# Altium footprint library Conn.Molex.PcbLib: 79 footprints (part 2 of 5)
Each footprint in its own frame and in the unit in brackets; x right, y up, seen from the top. Pads: shape width x height; smd on the part's side, far side on the other; paste and mask are expansions set on the pad; w line width, h text height; cw(c..) or ccw(c..) is an arc to the next point about the centre after c.
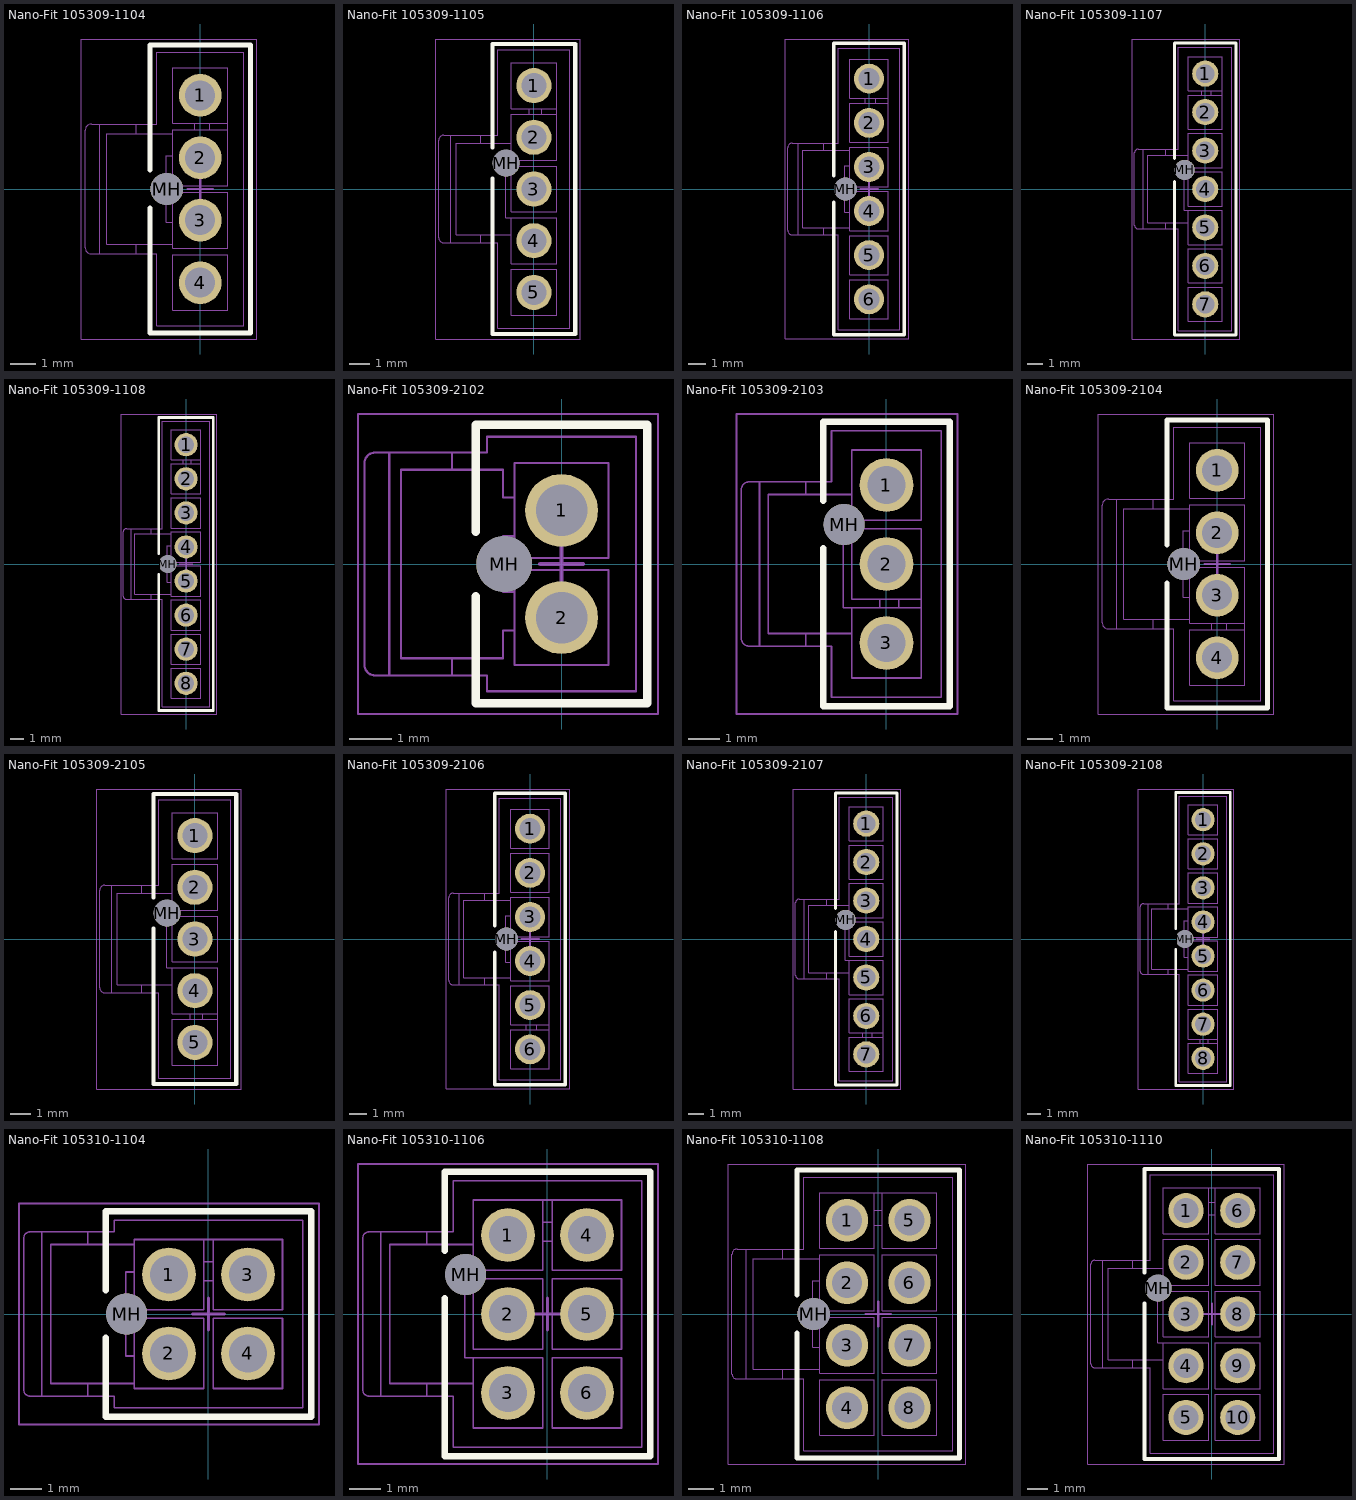
[diagram p1: the footprints below, top view; thin cyan lines are the x and y axes]

## Nano-Fit 105309-1104 [mm] "Molex Nano-Fit Header, 4-Pin, 2.5mm Pitch"
height 10.51
pads (5):
  round 1.7 hole 1.2: 1(0,3.75) 2(0,1.25) 3(0,-1.25) 4(0,-3.75)
  round 1.3 hole 1.3 unplated: MH(-1.34,0)
Top Overlay:
  lines w0.2: -2,-0.75 -2,-5.75 2,-5.75 2,5.75 -2,5.75 -2,0.75
Bottom Overlay:
  region: 0,4.884 -0.5,5.75 0.5,5.75
Mechanical 1:
  lines w0.05: -4.02,-2.6 -4.02,2.6 ; -2.56,-2.6 -2.56,-2.2 ; -2.56,2.2 -2.56,2.6 ; -1.095,-2.2 -3.75,-2.2 -3.75,2.2 -1.095,2.2 ; -1.095,-1.33 -1.37,-1.33 -1.37,1.33 -1.095,1.33 ; -0.215,2.36 -0.215,2.64 ; 0.385,2.36 0.385,2.64 ; 1.095,2.36 -1.095,2.36 -1.095,0.14 1.095,0.14 1.095,4.86 -1.095,4.86 -1.095,2.64 1.095,2.64 ; -0.318,-4.068 0.318,-4.068 ; -0.318,-4.068 -0.318,-3.433 ; -0.318,-4.068 -0.168,-3.918 ; -0.318,-3.433 0.318,-3.433 ; -0.318,-3.433 -0.168,-3.582 ; -0.318,-1.568 -0.318,-0.933 ; -0.318,-1.568 -0.168,-1.418 ; -0.318,-1.568 0.318,-1.568 ; -0.318,-0.933 0.318,-0.933 ; -0.318,-0.933 -0.168,-1.082 ; -0.318,0.933 -0.318,1.568 ; -0.318,0.933 -0.168,1.082 ; -0.318,0.933 0.318,0.933 ; -0.318,1.568 0.318,1.568 ; -0.318,1.568 -0.168,1.418 ; -0.318,3.433 -0.318,4.068 ; -0.318,3.433 -0.168,3.582 ; -0.318,3.433 0.318,3.433 ; -0.318,4.068 0.318,4.068 ; -0.318,4.068 -0.168,3.918 ; -0.168,-3.918 0.168,-3.918 ; -0.168,-3.918 -0.168,-3.582 ; -0.168,-3.582 0.168,-3.582 ; -0.168,-1.418 -0.168,-1.082 ; -0.168,-1.418 0.168,-1.418 ; -0.168,-1.082 0.168,-1.082 ; -0.168,1.082 0.168,1.082 ; -0.168,1.082 -0.168,1.418 ; -0.168,1.418 0.168,1.418 ; -0.168,3.582 -0.168,3.918 ; -0.168,3.582 0.168,3.582 ; -0.168,3.918 0.168,3.918 ; 0.168,-3.918 0.168,-3.582 ; 0.168,-3.918 0.318,-4.068 ; 0.168,-3.582 0.318,-3.433 ; 0.168,-1.418 0.168,-1.082 ; 0.168,-1.418 0.318,-1.568 ; 0.168,-1.082 0.318,-0.933 ; 0.168,1.082 0.168,1.418 ; 0.168,1.082 0.318,0.933 ; 0.168,1.418 0.318,1.568 ; 0.168,3.582 0.168,3.918 ; 0.168,3.582 0.318,3.433 ; 0.168,3.918 0.318,4.068 ; 0.318,-4.068 0.318,-3.433 ; 0.318,-1.568 0.318,-0.933 ; 0.318,0.933 0.318,1.568 ; 0.318,3.433 0.318,4.068 ; -4.6,-2.35 ccw(c-4.35,-2.35) -4.35,-2.6 -1.74,-2.6 -1.74,-5.47 1.74,-5.47 1.74,5.47 -1.74,5.47 -1.74,2.6 -4.35,2.6 ccw(c-4.35,2.35) -4.6,2.35 -4.6,-2.35 ; -1.095,-4.86 -1.095,-2.64 1.095,-2.64 1.095,-4.86 -1.095,-4.86 ; -1.095,-2.36 -1.095,-0.14 1.095,-0.14 1.095,-2.36 -1.095,-2.36
Mechanical 15:
  lines w0.05: -4.75,-6 2.25,-6 2.25,6 -4.75,6 -4.75,-6
  lines w0.1: -0.5,0 0.5,0 ; 0,-0.5 0,0.5
3D body "Nano-Fit 105309-1104.stp": height 10.51, standoff -3.2, extent -4.6,-5.47 1.74,5.47

## Nano-Fit 105309-1105 [mm] "Molex Nano-Fit Header, 5-Pin, 2.5mm Pitch"
height 10.51
pads (6):
  round 1.7 hole 1.2: 1(0,5) 2(0,2.5) 3(0,0) 4(0,-2.5) 5(0,-5)
  round 1.3 hole 1.3 unplated: MH(-1.34,1.25)
Top Overlay:
  lines w0.2: -2,0.5 -2,-7 2,-7 2,7 -2,7 -2,2
Bottom Overlay:
  region: 0,6.134 -0.5,7 0.5,7
Mechanical 1:
  lines w0.05: -4.02,-2.6 -4.02,2.6 ; -2.56,-2.6 -2.56,-2.2 ; -2.56,2.2 -2.56,2.6 ; -1.095,-2.2 -3.75,-2.2 -3.75,2.2 -1.095,2.2 ; -1.095,-1.39 -1.095,-3.61 1.095,-3.61 1.095,-1.39 -1.37,-1.39 -1.37,1.39 1.095,1.39 1.095,6.11 -1.095,6.11 -1.095,3.89 1.095,3.89 ; -1.095,1.39 -1.095,3.61 1.095,3.61 ; -0.215,3.61 -0.215,3.89 ; 0.385,3.61 0.385,3.89 ; -0.318,-5.318 -0.168,-5.168 ; -0.318,-5.318 -0.318,-4.683 ; -0.318,-5.318 0.318,-5.318 ; -0.318,-4.683 -0.168,-4.832 ; -0.318,-4.683 0.318,-4.683 ; -0.318,-2.818 0.318,-2.818 ; -0.318,-2.818 -0.168,-2.668 ; -0.318,-2.818 -0.318,-2.183 ; -0.318,-2.183 -0.168,-2.332 ; -0.318,-2.183 0.318,-2.183 ; -0.318,-0.318 0.318,-0.318 ; -0.318,-0.318 -0.168,-0.168 ; -0.318,-0.318 -0.318,0.318 ; -0.318,0.318 -0.168,0.168 ; -0.318,0.318 0.318,0.318 ; -0.318,2.183 0.318,2.183 ; -0.318,2.183 -0.168,2.332 ; -0.318,2.183 -0.318,2.818 ; -0.318,2.818 -0.168,2.668 ; -0.318,2.818 0.318,2.818 ; -0.318,4.683 -0.168,4.832 ; -0.318,4.683 -0.318,5.318 ; -0.318,4.683 0.318,4.683 ; -0.318,5.318 -0.168,5.168 ; -0.318,5.318 0.318,5.318 ; -0.168,-5.168 -0.168,-4.832 ; -0.168,-5.168 0.168,-5.168 ; -0.168,-4.832 0.168,-4.832 ; -0.168,-2.668 0.168,-2.668 ; -0.168,-2.668 -0.168,-2.332 ; -0.168,-2.332 0.168,-2.332 ; -0.168,-0.168 0.168,-0.168 ; -0.168,-0.168 -0.168,0.168 ; -0.168,0.168 0.168,0.168 ; -0.168,2.332 0.168,2.332 ; -0.168,2.332 -0.168,2.668 ; -0.168,2.668 0.168,2.668 ; -0.168,4.832 -0.168,5.168 ; -0.168,4.832 0.168,4.832 ; -0.168,5.168 0.168,5.168 ; 0.168,-5.168 0.318,-5.318 ; 0.168,-5.168 0.168,-4.832 ; 0.168,-4.832 0.318,-4.683 ; 0.168,-2.668 0.318,-2.818 ; 0.168,-2.668 0.168,-2.332 ; 0.168,-2.332 0.318,-2.183 ; 0.168,-0.168 0.318,-0.318 ; 0.168,-0.168 0.168,0.168 ; 0.168,0.168 0.318,0.318 ; 0.168,2.332 0.318,2.183 ; 0.168,2.332 0.168,2.668 ; 0.168,2.668 0.318,2.818 ; 0.168,4.832 0.318,4.683 ; 0.168,4.832 0.168,5.168 ; 0.168,5.168 0.318,5.318 ; 0.318,-5.318 0.318,-4.683 ; 0.318,-2.818 0.318,-2.183 ; 0.318,-0.318 0.318,0.318 ; 0.318,2.183 0.318,2.818 ; 0.318,4.683 0.318,5.318 ; -4.6,-2.35 ccw(c-4.35,-2.35) -4.35,-2.6 -1.74,-2.6 -1.74,-6.72 1.74,-6.72 1.74,6.72 -1.74,6.72 -1.74,2.6 -4.35,2.6 ccw(c-4.35,2.35) -4.6,2.35 -4.6,-2.35 ; -1.095,-6.11 -1.095,-3.89 1.095,-3.89 1.095,-6.11 -1.095,-6.11 ; -1.095,-1.11 -1.095,1.11 1.095,1.11 1.095,-1.11 -1.095,-1.11
Mechanical 15:
  lines w0.05: -4.75,-7.25 -4.75,7.25 2.25,7.25 2.25,-7.25 -4.75,-7.25
  lines w0.1: -0.5,0 0.5,0 ; 0,-0.5 0,0.5
3D body "Nano-Fit 105309-1105.stp": height 10.51, standoff -3.2, extent -4.6,-6.72 1.74,6.72

## Nano-Fit 105309-1106 [mm] "Molex Nano-Fit Header, 6-Pin, 2.5mm Pitch"
height 10.51
pads (7):
  round 1.7 hole 1.2: 1(0,6.25) 2(0,3.75) 3(0,1.25) 4(0,-1.25) 5(0,-3.75) 6(0,-6.25)
  round 1.3 hole 1.3 unplated: MH(-1.34,0)
Top Overlay:
  lines w0.2: -2,-0.75 -2,-8.25 2,-8.25 2,8.25 -2,8.25 -2,0.75
Bottom Overlay:
  region: 0,7.384 -0.5,8.25 0.5,8.25
Mechanical 1:
  lines w0.05: -4.02,-2.6 -4.02,2.6 ; -2.56,-2.6 -2.56,-2.2 ; -2.56,2.2 -2.56,2.6 ; -1.095,-2.2 -3.75,-2.2 -3.75,2.2 -1.095,2.2 ; -1.095,-1.33 -1.37,-1.33 -1.37,1.33 -1.095,1.33 ; -0.215,4.86 -0.215,5.14 ; 0.385,4.86 0.385,5.14 ; 1.095,4.86 -1.095,4.86 -1.095,2.64 1.095,2.64 1.095,7.36 -1.095,7.36 -1.095,5.14 1.095,5.14 ; -0.318,-6.568 -0.168,-6.418 ; -0.318,-6.568 0.318,-6.568 ; -0.318,-6.568 -0.318,-5.933 ; -0.318,-5.933 0.318,-5.933 ; -0.318,-5.933 -0.168,-6.082 ; -0.318,-4.068 -0.168,-3.918 ; -0.318,-4.068 -0.318,-3.433 ; -0.318,-4.068 0.318,-4.068 ; -0.318,-3.433 -0.168,-3.582 ; -0.318,-3.433 0.318,-3.433 ; -0.318,-1.568 0.318,-1.568 ; -0.318,-1.568 -0.168,-1.418 ; -0.318,-1.568 -0.318,-0.933 ; -0.318,-0.933 -0.168,-1.082 ; -0.318,-0.933 0.318,-0.933 ; -0.318,0.933 0.318,0.933 ; -0.318,0.933 -0.168,1.082 ; -0.318,0.933 -0.318,1.568 ; -0.318,1.568 -0.168,1.418 ; -0.318,1.568 0.318,1.568 ; -0.318,3.433 0.318,3.433 ; -0.318,3.433 -0.168,3.582 ; -0.318,3.433 -0.318,4.068 ; -0.318,4.068 -0.168,3.918 ; -0.318,4.068 0.318,4.068 ; -0.318,5.933 0.318,5.933 ; -0.318,5.933 -0.168,6.082 ; -0.318,5.933 -0.318,6.568 ; -0.318,6.568 -0.168,6.418 ; -0.318,6.568 0.318,6.568 ; -0.168,-6.418 0.168,-6.418 ; -0.168,-6.418 -0.168,-6.082 ; -0.168,-6.082 0.168,-6.082 ; -0.168,-3.918 -0.168,-3.582 ; -0.168,-3.918 0.168,-3.918 ; -0.168,-3.582 0.168,-3.582 ; -0.168,-1.418 0.168,-1.418 ; -0.168,-1.418 -0.168,-1.082 ; -0.168,-1.082 0.168,-1.082 ; -0.168,1.082 -0.168,1.418 ; -0.168,1.082 0.168,1.082 ; -0.168,1.418 0.168,1.418 ; -0.168,3.582 0.168,3.582 ; -0.168,3.582 -0.168,3.918 ; -0.168,3.918 0.168,3.918 ; -0.168,6.082 0.168,6.082 ; -0.168,6.082 -0.168,6.418 ; -0.168,6.418 0.168,6.418 ; 0.168,-6.418 0.318,-6.568 ; 0.168,-6.418 0.168,-6.082 ; 0.168,-6.082 0.318,-5.933 ; 0.168,-3.918 0.318,-4.068 ; 0.168,-3.918 0.168,-3.582 ; 0.168,-3.582 0.318,-3.433 ; 0.168,-1.418 0.318,-1.568 ; 0.168,-1.418 0.168,-1.082 ; 0.168,-1.082 0.318,-0.933 ; 0.168,1.082 0.318,0.933 ; 0.168,1.082 0.168,1.418 ; 0.168,1.418 0.318,1.568 ; 0.168,3.582 0.318,3.433 ; 0.168,3.582 0.168,3.918 ; 0.168,3.918 0.318,4.068 ; 0.168,6.082 0.318,5.933 ; 0.168,6.082 0.168,6.418 ; 0.168,6.418 0.318,6.568 ; 0.318,-6.568 0.318,-5.933 ; 0.318,-4.068 0.318,-3.433 ; 0.318,-1.568 0.318,-0.933 ; 0.318,0.933 0.318,1.568 ; 0.318,3.433 0.318,4.068 ; 0.318,5.933 0.318,6.568 ; -4.6,-2.35 ccw(c-4.35,-2.35) -4.35,-2.6 -1.74,-2.6 -1.74,-7.97 1.74,-7.97 1.74,7.97 -1.74,7.97 -1.74,2.6 -4.35,2.6 ccw(c-4.35,2.35) -4.6,2.35 -4.6,-2.35 ; -1.095,-7.36 -1.095,-5.14 1.095,-5.14 1.095,-7.36 -1.095,-7.36 ; -1.095,-4.86 -1.095,-2.64 1.095,-2.64 1.095,-4.86 -1.095,-4.86 ; -1.095,-2.36 1.095,-2.36 1.095,-0.14 -1.095,-0.14 -1.095,-2.36 ; -1.095,0.14 -1.095,2.36 1.095,2.36 1.095,0.14 -1.095,0.14
Mechanical 15:
  lines w0.05: -4.75,-8.5 2.25,-8.5 2.25,8.5 -4.75,8.5 -4.75,-8.5
  lines w0.1: -0.5,0 0.5,0 ; 0,-0.5 0,0.5
3D body "Nano-Fit 105309-1106.stp": height 10.51, standoff -3.2, extent -4.6,-7.97 1.74,7.97

## Nano-Fit 105309-1107 [mm] "Molex Nano-Fit Header, 7-Pin, 2.5mm Pitch"
height 10.51
pads (8):
  round 1.7 hole 1.2: 1(0,7.5) 2(0,5) 3(0,2.5) 4(0,0) 5(0,-2.5) 6(0,-5) 7(0,-7.5)
  round 1.3 hole 1.3 unplated: MH(-1.34,1.25)
Top Overlay:
  lines w0.2: -2,0.5 -2,-9.5 2,-9.5 2,9.5 -2,9.5 -2,2
Bottom Overlay:
  region: 0,8.634 -0.5,9.5 0.5,9.5
Mechanical 1:
  lines w0.05: -4.02,-2.6 -4.02,2.6 ; -2.56,-2.6 -2.56,-2.2 ; -2.56,2.2 -2.56,2.6 ; -1.095,-2.2 -3.75,-2.2 -3.75,2.2 -1.095,2.2 ; -1.095,-1.39 -1.095,-3.61 1.095,-3.61 1.095,-1.39 -1.37,-1.39 -1.37,1.39 1.095,1.39 1.095,3.61 -1.095,3.61 -1.095,1.39 ; -0.215,6.11 -0.215,6.39 ; 0.385,6.11 0.385,6.39 ; 1.095,6.11 -1.095,6.11 -1.095,3.89 1.095,3.89 1.095,8.61 -1.095,8.61 -1.095,6.39 1.095,6.39 ; -0.318,-7.818 0.318,-7.818 ; -0.318,-7.818 -0.318,-7.183 ; -0.318,-7.818 -0.168,-7.668 ; -0.318,-7.183 0.318,-7.183 ; -0.318,-7.183 -0.168,-7.332 ; -0.318,-5.318 0.318,-5.318 ; -0.318,-5.318 -0.318,-4.683 ; -0.318,-5.318 -0.168,-5.168 ; -0.318,-4.683 0.318,-4.683 ; -0.318,-4.683 -0.168,-4.832 ; -0.318,-2.818 -0.318,-2.183 ; -0.318,-2.818 -0.168,-2.668 ; -0.318,-2.818 0.318,-2.818 ; -0.318,-2.183 0.318,-2.183 ; -0.318,-2.183 -0.168,-2.332 ; -0.318,-0.318 -0.318,0.318 ; -0.318,-0.318 -0.168,-0.168 ; -0.318,-0.318 0.318,-0.318 ; -0.318,0.318 0.318,0.318 ; -0.318,0.318 -0.168,0.168 ; -0.318,2.183 -0.318,2.818 ; -0.318,2.183 -0.168,2.332 ; -0.318,2.183 0.318,2.183 ; -0.318,2.818 0.318,2.818 ; -0.318,2.818 -0.168,2.668 ; -0.318,4.683 0.318,4.683 ; -0.318,4.683 -0.318,5.318 ; -0.318,4.683 -0.168,4.832 ; -0.318,5.318 0.318,5.318 ; -0.318,5.318 -0.168,5.168 ; -0.318,7.183 0.318,7.183 ; -0.318,7.183 -0.318,7.818 ; -0.318,7.183 -0.168,7.332 ; -0.318,7.818 0.318,7.818 ; -0.318,7.818 -0.168,7.668 ; -0.168,-7.668 0.168,-7.668 ; -0.168,-7.668 -0.168,-7.332 ; -0.168,-7.332 0.168,-7.332 ; -0.168,-5.168 0.168,-5.168 ; -0.168,-5.168 -0.168,-4.832 ; -0.168,-4.832 0.168,-4.832 ; -0.168,-2.668 -0.168,-2.332 ; -0.168,-2.668 0.168,-2.668 ; -0.168,-2.332 0.168,-2.332 ; -0.168,-0.168 -0.168,0.168 ; -0.168,-0.168 0.168,-0.168 ; -0.168,0.168 0.168,0.168 ; -0.168,2.332 -0.168,2.668 ; -0.168,2.332 0.168,2.332 ; -0.168,2.668 0.168,2.668 ; -0.168,4.832 0.168,4.832 ; -0.168,4.832 -0.168,5.168 ; -0.168,5.168 0.168,5.168 ; -0.168,7.332 0.168,7.332 ; -0.168,7.332 -0.168,7.668 ; -0.168,7.668 0.168,7.668 ; 0.168,-7.668 0.168,-7.332 ; 0.168,-7.668 0.318,-7.818 ; 0.168,-7.332 0.318,-7.183 ; 0.168,-5.168 0.168,-4.832 ; 0.168,-5.168 0.318,-5.318 ; 0.168,-4.832 0.318,-4.683 ; 0.168,-2.668 0.168,-2.332 ; 0.168,-2.668 0.318,-2.818 ; 0.168,-2.332 0.318,-2.183 ; 0.168,-0.168 0.168,0.168 ; 0.168,-0.168 0.318,-0.318 ; 0.168,0.168 0.318,0.318 ; 0.168,2.332 0.168,2.668 ; 0.168,2.332 0.318,2.183 ; 0.168,2.668 0.318,2.818 ; 0.168,4.832 0.168,5.168 ; 0.168,4.832 0.318,4.683 ; 0.168,5.168 0.318,5.318 ; 0.168,7.332 0.168,7.668 ; 0.168,7.332 0.318,7.183 ; 0.168,7.668 0.318,7.818 ; 0.318,-7.818 0.318,-7.183 ; 0.318,-5.318 0.318,-4.683 ; 0.318,-2.818 0.318,-2.183 ; 0.318,-0.318 0.318,0.318 ; 0.318,2.183 0.318,2.818 ; 0.318,4.683 0.318,5.318 ; 0.318,7.183 0.318,7.818 ; -4.6,-2.35 ccw(c-4.35,-2.35) -4.35,-2.6 -1.74,-2.6 -1.74,-9.22 1.74,-9.22 1.74,9.22 -1.74,9.22 -1.74,2.6 -4.35,2.6 ccw(c-4.35,2.35) -4.6,2.35 -4.6,-2.35 ; -1.095,-8.61 1.095,-8.61 1.095,-6.39 -1.095,-6.39 -1.095,-8.61 ; -1.095,-6.11 1.095,-6.11 1.095,-3.89 -1.095,-3.89 -1.095,-6.11 ; -1.095,-1.11 1.095,-1.11 1.095,1.11 -1.095,1.11 -1.095,-1.11
Mechanical 15:
  lines w0.05: -4.75,-9.75 2.25,-9.75 2.25,9.75 -4.75,9.75 -4.75,-9.75
  lines w0.1: -0.5,0 0.5,0 ; 0,-0.5 0,0.5
3D body "Nano-Fit 105309-1107.stp": height 10.51, standoff -3.2, extent -4.6,-9.22 1.74,9.22

## Nano-Fit 105309-1108 [mm] "Molex Nano-Fit Header, 8-Pin, 2.5mm Pitch"
height 10.51
pads (9):
  round 1.7 hole 1.2: 1(0,8.75) 2(0,6.25) 3(0,3.75) 4(0,1.25) 5(0,-1.25) 6(0,-3.75) 7(0,-6.25) 8(0,-8.75)
  round 1.3 hole 1.3 unplated: MH(-1.34,0)
Top Overlay:
  lines w0.2: -2,-0.75 -2,-10.75 2,-10.75 2,10.75 -2,10.75 -2,0.75
Bottom Overlay:
  region: 0,9.884 -0.5,10.75 0.5,10.75
Mechanical 1:
  lines w0.05: -4.02,-2.6 -4.02,2.6 ; -2.56,-2.6 -2.56,-2.2 ; -2.56,2.2 -2.56,2.6 ; -1.095,-2.2 -3.75,-2.2 -3.75,2.2 -1.095,2.2 ; -1.095,-1.33 -1.37,-1.33 -1.37,1.33 -1.095,1.33 ; -0.215,7.36 -0.215,7.64 ; 0.385,7.36 0.385,7.64 ; 1.095,7.36 -1.095,7.36 -1.095,5.14 1.095,5.14 1.095,9.86 -1.095,9.86 -1.095,7.64 1.095,7.64 ; -0.318,-9.068 -0.168,-8.918 ; -0.318,-9.068 0.318,-9.068 ; -0.318,-9.068 -0.318,-8.433 ; -0.318,-8.433 0.318,-8.433 ; -0.318,-8.433 -0.168,-8.582 ; -0.318,-6.568 -0.168,-6.418 ; -0.318,-6.568 0.318,-6.568 ; -0.318,-6.568 -0.318,-5.933 ; -0.318,-5.933 0.318,-5.933 ; -0.318,-5.933 -0.168,-6.082 ; -0.318,-4.068 -0.168,-3.918 ; -0.318,-4.068 -0.318,-3.433 ; -0.318,-4.068 0.318,-4.068 ; -0.318,-3.433 -0.168,-3.582 ; -0.318,-3.433 0.318,-3.433 ; -0.318,-1.568 0.318,-1.568 ; -0.318,-1.568 -0.168,-1.418 ; -0.318,-1.568 -0.318,-0.933 ; -0.318,-0.933 -0.168,-1.082 ; -0.318,-0.933 0.318,-0.933 ; -0.318,0.933 0.318,0.933 ; -0.318,0.933 -0.168,1.082 ; -0.318,0.933 -0.318,1.568 ; -0.318,1.568 -0.168,1.418 ; -0.318,1.568 0.318,1.568 ; -0.318,3.433 -0.168,3.582 ; -0.318,3.433 -0.318,4.068 ; -0.318,3.433 0.318,3.433 ; -0.318,4.068 -0.168,3.918 ; -0.318,4.068 0.318,4.068 ; -0.318,5.933 0.318,5.933 ; -0.318,5.933 -0.168,6.082 ; -0.318,5.933 -0.318,6.568 ; -0.318,6.568 -0.168,6.418 ; -0.318,6.568 0.318,6.568 ; -0.318,8.433 0.318,8.433 ; -0.318,8.433 -0.168,8.582 ; -0.318,8.433 -0.318,9.068 ; -0.318,9.068 -0.168,8.918 ; -0.318,9.068 0.318,9.068 ; -0.168,-8.918 0.168,-8.918 ; -0.168,-8.918 -0.168,-8.582 ; -0.168,-8.582 0.168,-8.582 ; -0.168,-6.418 0.168,-6.418 ; -0.168,-6.418 -0.168,-6.082 ; -0.168,-6.082 0.168,-6.082 ; -0.168,-3.918 -0.168,-3.582 ; -0.168,-3.918 0.168,-3.918 ; -0.168,-3.582 0.168,-3.582 ; -0.168,-1.418 0.168,-1.418 ; -0.168,-1.418 -0.168,-1.082 ; -0.168,-1.082 0.168,-1.082 ; -0.168,1.082 -0.168,1.418 ; -0.168,1.082 0.168,1.082 ; -0.168,1.418 0.168,1.418 ; -0.168,3.582 -0.168,3.918 ; -0.168,3.582 0.168,3.582 ; -0.168,3.918 0.168,3.918 ; -0.168,6.082 0.168,6.082 ; -0.168,6.082 -0.168,6.418 ; -0.168,6.418 0.168,6.418 ; -0.168,8.582 0.168,8.582 ; -0.168,8.582 -0.168,8.918 ; -0.168,8.918 0.168,8.918 ; 0.168,-8.918 0.318,-9.068 ; 0.168,-8.918 0.168,-8.582 ; 0.168,-8.582 0.318,-8.433 ; 0.168,-6.418 0.318,-6.568 ; 0.168,-6.418 0.168,-6.082 ; 0.168,-6.082 0.318,-5.933 ; 0.168,-3.918 0.318,-4.068 ; 0.168,-3.918 0.168,-3.582 ; 0.168,-3.582 0.318,-3.433 ; 0.168,-1.418 0.318,-1.568 ; 0.168,-1.418 0.168,-1.082 ; 0.168,-1.082 0.318,-0.933 ; 0.168,1.082 0.318,0.933 ; 0.168,1.082 0.168,1.418 ; 0.168,1.418 0.318,1.568 ; 0.168,3.582 0.318,3.433 ; 0.168,3.582 0.168,3.918 ; 0.168,3.918 0.318,4.068 ; 0.168,6.082 0.318,5.933 ; 0.168,6.082 0.168,6.418 ; 0.168,6.418 0.318,6.568 ; 0.168,8.582 0.318,8.433 ; 0.168,8.582 0.168,8.918 ; 0.168,8.918 0.318,9.068 ; 0.318,-9.068 0.318,-8.433 ; 0.318,-6.568 0.318,-5.933 ; 0.318,-4.068 0.318,-3.433 ; 0.318,-1.568 0.318,-0.933 ; 0.318,0.933 0.318,1.568 ; 0.318,3.433 0.318,4.068 ; 0.318,5.933 0.318,6.568 ; 0.318,8.433 0.318,9.068 ; -4.6,-2.35 ccw(c-4.35,-2.35) -4.35,-2.6 -1.74,-2.6 -1.74,-10.47 1.74,-10.47 1.74,10.47 -1.74,10.47 -1.74,2.6 -4.35,2.6 ccw(c-4.35,2.35) -4.6,2.35 -4.6,-2.35 ; -1.095,-9.86 -1.095,-7.64 1.095,-7.64 1.095,-9.86 -1.095,-9.86 ; -1.095,-7.36 -1.095,-5.14 1.095,-5.14 1.095,-7.36 -1.095,-7.36 ; -1.095,-4.86 -1.095,-2.64 1.095,-2.64 1.095,-4.86 -1.095,-4.86 ; -1.095,-2.36 1.095,-2.36 1.095,-0.14 -1.095,-0.14 -1.095,-2.36 ; -1.095,0.14 -1.095,2.36 1.095,2.36 1.095,0.14 -1.095,0.14 ; -1.095,2.64 -1.095,4.86 1.095,4.86 1.095,2.64 -1.095,2.64
Mechanical 15:
  lines w0.05: -4.75,-11 -4.75,11 2.25,11 2.25,-11 -4.75,-11
  lines w0.1: -0.5,0 0.5,0 ; 0,-0.5 0,0.5
3D body "Nano-Fit 105309-1108.stp": height 10.51, standoff -3.2, extent -4.6,-10.47 1.74,10.47

## Nano-Fit 105309-2102 [mm] "Molex Nano-Fit Header, 2-Pin, 2.5mm Pitch"
height 10.51
pads (3):
  round 1.7 hole 1.2: 1(0,1.25) 2(0,-1.25)
  round 1.3 hole 1.3 unplated: MH(-1.34,0)
Top Overlay:
  lines w0.2: -2,-0.75 -2,-3.25 2,-3.25 2,3.25 -2,3.25 -2,0.75
Bottom Overlay:
  region: 0,2.384 -0.5,3.25 0.5,3.25
Mechanical 1:
  lines w0.05: -4.02,-2.6 -4.02,2.6 ; -2.56,-2.6 -2.56,-2.2 ; -2.56,2.2 -2.56,2.6 ; -1.095,-1.55 -1.37,-1.55 -1.37,-2.2 -3.75,-2.2 -3.75,2.2 -1.37,2.2 -1.37,1.55 -1.095,1.55 ; -1.095,-0.65 -1.37,-0.65 -1.37,0.65 -1.095,0.65 ; -0.318,-1.568 -0.168,-1.418 ; -0.318,-1.568 -0.318,-0.933 ; -0.318,-1.568 0.318,-1.568 ; -0.318,-0.933 -0.168,-1.082 ; -0.318,-0.933 0.318,-0.933 ; -0.318,0.933 -0.168,1.082 ; -0.318,0.933 -0.318,1.568 ; -0.318,0.933 0.318,0.933 ; -0.318,1.568 -0.168,1.418 ; -0.318,1.568 0.318,1.568 ; -0.168,-1.418 -0.168,-1.082 ; -0.168,-1.418 0.168,-1.418 ; -0.168,-1.082 0.168,-1.082 ; -0.168,1.082 -0.168,1.418 ; -0.168,1.082 0.168,1.082 ; -0.168,1.418 0.168,1.418 ; 0.168,-1.418 0.318,-1.568 ; 0.168,-1.418 0.168,-1.082 ; 0.168,-1.082 0.318,-0.933 ; 0.168,1.082 0.168,1.418 ; 0.168,1.082 0.318,0.933 ; 0.168,1.418 0.318,1.568 ; 0.318,-1.568 0.318,-0.933 ; 0.318,0.933 0.318,1.568 ; -4.6,-2.35 ccw(c-4.35,-2.35) -4.35,-2.6 -1.74,-2.6 -1.74,-2.97 1.74,-2.97 1.74,2.97 -1.74,2.97 -1.74,2.6 -4.35,2.6 ccw(c-4.35,2.35) -4.6,2.35 -4.6,-2.35 ; -1.095,-2.36 -1.095,-0.14 1.095,-0.14 1.095,-2.36 -1.095,-2.36 ; -1.095,0.14 -1.095,2.36 1.095,2.36 1.095,0.14 -1.095,0.14
Mechanical 15:
  lines w0.05: -4.75,-3.5 -4.75,3.5 2.25,3.5 2.25,-3.5 -4.75,-3.5
  lines w0.1: -0.5,0 0.5,0 ; 0,-0.5 0,0.5
3D body "Nano-Fit 105309-2102.stp": height 10.51, standoff -3.2, extent -4.6,-2.97 1.74,2.97

## Nano-Fit 105309-2103 [mm] "Molex Nano-Fit Header, 3-Pin, 2.5mm Pitch"
height 10.51
pads (4):
  round 1.7 hole 1.2: 1(0,2.5) 2(0,0) 3(0,-2.5)
  round 1.3 hole 1.3 unplated: MH(-1.34,1.25)
Top Overlay:
  lines w0.2: -2,0.5 -2,-4.5 2,-4.5 2,4.5 -2,4.5 -2,2
Bottom Overlay:
  region: 0,3.634 -0.5,4.5 0.5,4.5
Mechanical 1:
  lines w0.05: -4.02,-2.6 -4.02,2.6 ; -2.56,-2.6 -2.56,-2.2 ; -2.56,2.2 -2.56,2.6 ; -1.095,-2.2 -3.75,-2.2 -3.75,2.2 -1.095,2.2 ; -1.095,-1.39 -1.095,-3.61 1.095,-3.61 1.095,1.11 -1.095,1.11 -1.095,-1.11 1.095,-1.11 ; -1.095,1.39 -1.095,3.61 1.095,3.61 1.095,1.39 -1.37,1.39 -1.37,-1.39 1.095,-1.39 ; -0.215,-1.39 -0.215,-1.11 ; 0.385,-1.39 0.385,-1.11 ; -0.318,-2.818 0.318,-2.818 ; -0.318,-2.818 -0.168,-2.668 ; -0.318,-2.818 -0.318,-2.183 ; -0.318,-2.183 -0.168,-2.332 ; -0.318,-2.183 0.318,-2.183 ; -0.318,-0.318 0.318,-0.318 ; -0.318,-0.318 -0.168,-0.168 ; -0.318,-0.318 -0.318,0.318 ; -0.318,0.318 0.318,0.318 ; -0.318,0.318 -0.168,0.168 ; -0.318,2.183 -0.318,2.818 ; -0.318,2.183 0.318,2.183 ; -0.318,2.183 -0.168,2.332 ; -0.318,2.818 -0.168,2.668 ; -0.318,2.818 0.318,2.818 ; -0.168,-2.668 0.168,-2.668 ; -0.168,-2.668 -0.168,-2.332 ; -0.168,-2.332 0.168,-2.332 ; -0.168,-0.168 0.168,-0.168 ; -0.168,-0.168 -0.168,0.168 ; -0.168,0.168 0.168,0.168 ; -0.168,2.332 0.168,2.332 ; -0.168,2.332 -0.168,2.668 ; -0.168,2.668 0.168,2.668 ; 0.168,-2.668 0.318,-2.818 ; 0.168,-2.668 0.168,-2.332 ; 0.168,-2.332 0.318,-2.183 ; 0.168,-0.168 0.318,-0.318 ; 0.168,-0.168 0.168,0.168 ; 0.168,0.168 0.318,0.318 ; 0.168,2.332 0.318,2.183 ; 0.168,2.332 0.168,2.668 ; 0.168,2.668 0.318,2.818 ; 0.318,-2.818 0.318,-2.183 ; 0.318,-0.318 0.318,0.318 ; 0.318,2.183 0.318,2.818 ; -4.6,-2.35 ccw(c-4.35,-2.35) -4.35,-2.6 -1.74,-2.6 -1.74,-4.22 1.74,-4.22 1.74,4.22 -1.74,4.22 -1.74,2.6 -4.35,2.6 ccw(c-4.35,2.35) -4.6,2.35 -4.6,-2.35
Mechanical 15:
  lines w0.05: -4.75,-4.75 2.25,-4.75 2.25,4.75 -4.75,4.75 -4.75,-4.75
  lines w0.1: -0.5,0 0.5,0 ; 0,-0.5 0,0.5
3D body "Nano-Fit 105309-2103.stp": height 10.51, standoff -3.2, extent -4.6,-4.22 1.74,4.22

## Nano-Fit 105309-2104 [mm] "Molex Nano-Fit Header, 4-Pin, 2.5mm Pitch"
height 10.51
pads (5):
  round 1.7 hole 1.2: 1(0,3.75) 2(0,1.25) 3(0,-1.25) 4(0,-3.75)
  round 1.3 hole 1.3 unplated: MH(-1.34,0)
Top Overlay:
  lines w0.2: -2,-0.75 -2,-5.75 2,-5.75 2,5.75 -2,5.75 -2,0.75
Bottom Overlay:
  region: 0,4.884 -0.5,5.75 0.5,5.75
Mechanical 1:
  lines w0.05: -4.02,-2.6 -4.02,2.6 ; -2.56,-2.6 -2.56,-2.2 ; -2.56,2.2 -2.56,2.6 ; -1.095,-2.2 -3.75,-2.2 -3.75,2.2 -1.095,2.2 ; -1.095,-1.33 -1.37,-1.33 -1.37,1.33 -1.095,1.33 ; -0.215,-2.64 -0.215,-2.36 ; 0.385,-2.64 0.385,-2.36 ; 1.095,-2.64 -1.095,-2.64 -1.095,-4.86 1.095,-4.86 1.095,-0.14 -1.095,-0.14 -1.095,-2.36 1.095,-2.36 ; -0.318,-4.068 -0.168,-3.918 ; -0.318,-4.068 0.318,-4.068 ; -0.318,-4.068 -0.318,-3.433 ; -0.318,-3.433 0.318,-3.433 ; -0.318,-3.433 -0.168,-3.582 ; -0.318,-1.568 -0.168,-1.418 ; -0.318,-1.568 0.318,-1.568 ; -0.318,-1.568 -0.318,-0.933 ; -0.318,-0.933 0.318,-0.933 ; -0.318,-0.933 -0.168,-1.082 ; -0.318,0.933 -0.168,1.082 ; -0.318,0.933 0.318,0.933 ; -0.318,0.933 -0.318,1.568 ; -0.318,1.568 0.318,1.568 ; -0.318,1.568 -0.168,1.418 ; -0.318,3.433 -0.318,4.068 ; -0.318,3.433 -0.168,3.582 ; -0.318,3.433 0.318,3.433 ; -0.318,4.068 -0.168,3.918 ; -0.318,4.068 0.318,4.068 ; -0.168,-3.918 0.168,-3.918 ; -0.168,-3.918 -0.168,-3.582 ; -0.168,-3.582 0.168,-3.582 ; -0.168,-1.418 -0.168,-1.082 ; -0.168,-1.418 0.168,-1.418 ; -0.168,-1.082 0.168,-1.082 ; -0.168,1.082 0.168,1.082 ; -0.168,1.082 -0.168,1.418 ; -0.168,1.418 0.168,1.418 ; -0.168,3.582 -0.168,3.918 ; -0.168,3.582 0.168,3.582 ; -0.168,3.918 0.168,3.918 ; 0.168,-3.918 0.318,-4.068 ; 0.168,-3.918 0.168,-3.582 ; 0.168,-3.582 0.318,-3.433 ; 0.168,-1.418 0.168,-1.082 ; 0.168,-1.418 0.318,-1.568 ; 0.168,-1.082 0.318,-0.933 ; 0.168,1.082 0.318,0.933 ; 0.168,1.082 0.168,1.418 ; 0.168,1.418 0.318,1.568 ; 0.168,3.582 0.318,3.433 ; 0.168,3.582 0.168,3.918 ; 0.168,3.918 0.318,4.068 ; 0.318,-4.068 0.318,-3.433 ; 0.318,-1.568 0.318,-0.933 ; 0.318,0.933 0.318,1.568 ; 0.318,3.433 0.318,4.068 ; -4.6,-2.35 ccw(c-4.35,-2.35) -4.35,-2.6 -1.74,-2.6 -1.74,-5.47 1.74,-5.47 1.74,5.47 -1.74,5.47 -1.74,2.6 -4.35,2.6 ccw(c-4.35,2.35) -4.6,2.35 -4.6,-2.35 ; -1.095,0.14 1.095,0.14 1.095,2.36 -1.095,2.36 -1.095,0.14 ; -1.095,2.64 1.095,2.64 1.095,4.86 -1.095,4.86 -1.095,2.64
Mechanical 15:
  lines w0.05: -4.75,-6 -4.75,6 2.25,6 2.25,-6 -4.75,-6
  lines w0.1: -0.5,0 0.5,0 ; 0,-0.5 0,0.5
3D body "Nano-Fit 105309-2104.stp": height 10.51, standoff -3.2, extent -4.6,-5.47 1.74,5.47

## Nano-Fit 105309-2105 [mm] "Molex Nano-Fit Header, 5-Pin, 2.5mm Pitch"
height 10.51
pads (6):
  round 1.7 hole 1.2: 1(0,5) 2(0,2.5) 3(0,0) 4(0,-2.5) 5(0,-5)
  round 1.3 hole 1.3 unplated: MH(-1.34,1.25)
Top Overlay:
  lines w0.2: -2,0.5 -2,-7 2,-7 2,7 -2,7 -2,2
Bottom Overlay:
  region: 0,6.134 -0.5,7 0.5,7
Mechanical 1:
  lines w0.05: -4.02,-2.6 -4.02,2.6 ; -2.56,-2.6 -2.56,-2.2 ; -2.56,2.2 -2.56,2.6 ; -1.095,-2.2 -3.75,-2.2 -3.75,2.2 -1.095,2.2 ; -1.095,-1.39 -1.095,-3.61 1.095,-3.61 ; -1.095,1.39 -1.095,3.61 1.095,3.61 1.095,1.39 -1.37,1.39 -1.37,-1.39 1.095,-1.39 1.095,-6.11 -1.095,-6.11 -1.095,-3.89 1.095,-3.89 ; -0.215,-3.89 -0.215,-3.61 ; 0.385,-3.89 0.385,-3.61 ; -0.318,-5.318 0.318,-5.318 ; -0.318,-5.318 -0.168,-5.168 ; -0.318,-5.318 -0.318,-4.683 ; -0.318,-4.683 0.318,-4.683 ; -0.318,-4.683 -0.168,-4.832 ; -0.318,-2.818 0.318,-2.818 ; -0.318,-2.818 -0.168,-2.668 ; -0.318,-2.818 -0.318,-2.183 ; -0.318,-2.183 -0.168,-2.332 ; -0.318,-2.183 0.318,-2.183 ; -0.318,-0.318 0.318,-0.318 ; -0.318,-0.318 -0.168,-0.168 ; -0.318,-0.318 -0.318,0.318 ; -0.318,0.318 -0.168,0.168 ; -0.318,0.318 0.318,0.318 ; -0.318,2.183 0.318,2.183 ; -0.318,2.183 -0.168,2.332 ; -0.318,2.183 -0.318,2.818 ; -0.318,2.818 -0.168,2.668 ; -0.318,2.818 0.318,2.818 ; -0.318,4.683 0.318,4.683 ; -0.318,4.683 -0.168,4.832 ; -0.318,4.683 -0.318,5.318 ; -0.318,5.318 0.318,5.318 ; -0.318,5.318 -0.168,5.168 ; -0.168,-5.168 0.168,-5.168 ; -0.168,-5.168 -0.168,-4.832 ; -0.168,-4.832 0.168,-4.832 ; -0.168,-2.668 0.168,-2.668 ; -0.168,-2.668 -0.168,-2.332 ; -0.168,-2.332 0.168,-2.332 ; -0.168,-0.168 0.168,-0.168 ; -0.168,-0.168 -0.168,0.168 ; -0.168,0.168 0.168,0.168 ; -0.168,2.332 0.168,2.332 ; -0.168,2.332 -0.168,2.668 ; -0.168,2.668 0.168,2.668 ; -0.168,4.832 0.168,4.832 ; -0.168,4.832 -0.168,5.168 ; -0.168,5.168 0.168,5.168 ; 0.168,-5.168 0.168,-4.832 ; 0.168,-5.168 0.318,-5.318 ; 0.168,-4.832 0.318,-4.683 ; 0.168,-2.668 0.318,-2.818 ; 0.168,-2.668 0.168,-2.332 ; 0.168,-2.332 0.318,-2.183 ; 0.168,-0.168 0.318,-0.318 ; 0.168,-0.168 0.168,0.168 ; 0.168,0.168 0.318,0.318 ; 0.168,2.332 0.318,2.183 ; 0.168,2.332 0.168,2.668 ; 0.168,2.668 0.318,2.818 ; 0.168,4.832 0.318,4.683 ; 0.168,4.832 0.168,5.168 ; 0.168,5.168 0.318,5.318 ; 0.318,-5.318 0.318,-4.683 ; 0.318,-2.818 0.318,-2.183 ; 0.318,-0.318 0.318,0.318 ; 0.318,2.183 0.318,2.818 ; 0.318,4.683 0.318,5.318 ; -4.6,-2.35 ccw(c-4.35,-2.35) -4.35,-2.6 -1.74,-2.6 -1.74,-6.72 1.74,-6.72 1.74,6.72 -1.74,6.72 -1.74,2.6 -4.35,2.6 ccw(c-4.35,2.35) -4.6,2.35 -4.6,-2.35 ; -1.095,-1.11 -1.095,1.11 1.095,1.11 1.095,-1.11 -1.095,-1.11 ; -1.095,3.89 1.095,3.89 1.095,6.11 -1.095,6.11 -1.095,3.89
Mechanical 15:
  lines w0.05: -4.75,-7.25 2.25,-7.25 2.25,7.25 -4.75,7.25 -4.75,-7.25
  lines w0.1: -0.5,0 0.5,0 ; 0,-0.5 0,0.5
3D body "Nano-Fit 105309-2105.stp": height 10.51, standoff -3.2, extent -4.6,-6.72 1.74,6.72

## Nano-Fit 105309-2106 [mm] "Molex Nano-Fit Header, 6-Pin, 2.5mm Pitch"
height 10.51
pads (7):
  round 1.7 hole 1.2: 1(0,6.25) 2(0,3.75) 3(0,1.25) 4(0,-1.25) 5(0,-3.75) 6(0,-6.25)
  round 1.3 hole 1.3 unplated: MH(-1.34,0)
Top Overlay:
  lines w0.2: -2,-0.75 -2,-8.25 2,-8.25 2,8.25 -2,8.25 -2,0.75
Bottom Overlay:
  region: 0,7.384 -0.5,8.25 0.5,8.25
Mechanical 1:
  lines w0.05: -4.02,-2.6 -4.02,2.6 ; -2.56,-2.6 -2.56,-2.2 ; -2.56,2.2 -2.56,2.6 ; -1.095,-2.2 -3.75,-2.2 -3.75,2.2 -1.095,2.2 ; -1.095,-1.33 -1.37,-1.33 -1.37,1.33 -1.095,1.33 ; -0.215,-5.14 -0.215,-4.86 ; 0.385,-5.14 0.385,-4.86 ; 1.095,-5.14 -1.095,-5.14 -1.095,-7.36 1.095,-7.36 1.095,-2.64 -1.095,-2.64 -1.095,-4.86 1.095,-4.86 ; -0.318,-6.568 -0.168,-6.418 ; -0.318,-6.568 0.318,-6.568 ; -0.318,-6.568 -0.318,-5.933 ; -0.318,-5.933 0.318,-5.933 ; -0.318,-5.933 -0.168,-6.082 ; -0.318,-4.068 -0.168,-3.918 ; -0.318,-4.068 0.318,-4.068 ; -0.318,-4.068 -0.318,-3.433 ; -0.318,-3.433 0.318,-3.433 ; -0.318,-3.433 -0.168,-3.582 ; -0.318,-1.568 -0.168,-1.418 ; -0.318,-1.568 0.318,-1.568 ; -0.318,-1.568 -0.318,-0.933 ; -0.318,-0.933 0.318,-0.933 ; -0.318,-0.933 -0.168,-1.082 ; -0.318,0.933 -0.168,1.082 ; -0.318,0.933 0.318,0.933 ; -0.318,0.933 -0.318,1.568 ; -0.318,1.568 0.318,1.568 ; -0.318,1.568 -0.168,1.418 ; -0.318,3.433 -0.318,4.068 ; -0.318,3.433 -0.168,3.582 ; -0.318,3.433 0.318,3.433 ; -0.318,4.068 -0.168,3.918 ; -0.318,4.068 0.318,4.068 ; -0.318,5.933 0.318,5.933 ; -0.318,5.933 -0.168,6.082 ; -0.318,5.933 -0.318,6.568 ; -0.318,6.568 -0.168,6.418 ; -0.318,6.568 0.318,6.568 ; -0.168,-6.418 0.168,-6.418 ; -0.168,-6.418 -0.168,-6.082 ; -0.168,-6.082 0.168,-6.082 ; -0.168,-3.918 0.168,-3.918 ; -0.168,-3.918 -0.168,-3.582 ; -0.168,-3.582 0.168,-3.582 ; -0.168,-1.418 -0.168,-1.082 ; -0.168,-1.418 0.168,-1.418 ; -0.168,-1.082 0.168,-1.082 ; -0.168,1.082 0.168,1.082 ; -0.168,1.082 -0.168,1.418 ; -0.168,1.418 0.168,1.418 ; -0.168,3.582 -0.168,3.918 ; -0.168,3.582 0.168,3.582 ; -0.168,3.918 0.168,3.918 ; -0.168,6.082 0.168,6.082 ; -0.168,6.082 -0.168,6.418 ; -0.168,6.418 0.168,6.418 ; 0.168,-6.418 0.318,-6.568 ; 0.168,-6.418 0.168,-6.082 ; 0.168,-6.082 0.318,-5.933 ; 0.168,-3.918 0.318,-4.068 ; 0.168,-3.918 0.168,-3.582 ; 0.168,-3.582 0.318,-3.433 ; 0.168,-1.418 0.168,-1.082 ; 0.168,-1.418 0.318,-1.568 ; 0.168,-1.082 0.318,-0.933 ; 0.168,1.082 0.318,0.933 ; 0.168,1.082 0.168,1.418 ; 0.168,1.418 0.318,1.568 ; 0.168,3.582 0.318,3.433 ; 0.168,3.582 0.168,3.918 ; 0.168,3.918 0.318,4.068 ; 0.168,6.082 0.318,5.933 ; 0.168,6.082 0.168,6.418 ; 0.168,6.418 0.318,6.568 ; 0.318,-6.568 0.318,-5.933 ; 0.318,-4.068 0.318,-3.433 ; 0.318,-1.568 0.318,-0.933 ; 0.318,0.933 0.318,1.568 ; 0.318,3.433 0.318,4.068 ; 0.318,5.933 0.318,6.568 ; -4.6,-2.35 ccw(c-4.35,-2.35) -4.35,-2.6 -1.74,-2.6 -1.74,-7.97 1.74,-7.97 1.74,7.97 -1.74,7.97 -1.74,2.6 -4.35,2.6 ccw(c-4.35,2.35) -4.6,2.35 -4.6,-2.35 ; -1.095,-2.36 1.095,-2.36 1.095,-0.14 -1.095,-0.14 -1.095,-2.36 ; -1.095,0.14 1.095,0.14 1.095,2.36 -1.095,2.36 -1.095,0.14 ; -1.095,2.64 1.095,2.64 1.095,4.86 -1.095,4.86 -1.095,2.64 ; -1.095,5.14 -1.095,7.36 1.095,7.36 1.095,5.14 -1.095,5.14
Mechanical 15:
  lines w0.05: -4.75,-8.5 2.25,-8.5 2.25,8.5 -4.75,8.5 -4.75,-8.5
  lines w0.1: -0.5,0 0.5,0 ; 0,-0.5 0,0.5
3D body "Nano-Fit 105309-2106.stp": height 10.51, standoff -3.2, extent -4.6,-7.97 1.74,7.97

## Nano-Fit 105309-2107 [mm] "Molex Nano-Fit Header, 7-Pin, 2.5mm Pitch"
height 10.51
pads (8):
  round 1.7 hole 1.2: 1(0,7.5) 2(0,5) 3(0,2.5) 4(0,0) 5(0,-2.5) 6(0,-5) 7(0,-7.5)
  round 1.3 hole 1.3 unplated: MH(-1.34,1.25)
Top Overlay:
  lines w0.2: -2,0.5 -2,-9.5 2,-9.5 2,9.5 -2,9.5 -2,2
Bottom Overlay:
  region: 0,8.634 -0.5,9.5 0.5,9.5
Mechanical 1:
  lines w0.05: -4.02,-2.6 -4.02,2.6 ; -2.56,-2.6 -2.56,-2.2 ; -2.56,2.2 -2.56,2.6 ; -1.095,-2.2 -3.75,-2.2 -3.75,2.2 -1.095,2.2 ; -1.095,-1.39 -1.095,-3.61 1.095,-3.61 1.095,-1.39 -1.37,-1.39 -1.37,1.39 1.095,1.39 1.095,3.61 -1.095,3.61 -1.095,1.39 ; -0.215,-6.39 -0.215,-6.11 ; 0.385,-6.39 0.385,-6.11 ; 1.095,-6.39 -1.095,-6.39 -1.095,-8.61 1.095,-8.61 1.095,-3.89 -1.095,-3.89 -1.095,-6.11 1.095,-6.11 ; -0.318,-7.818 0.318,-7.818 ; -0.318,-7.818 -0.168,-7.668 ; -0.318,-7.818 -0.318,-7.183 ; -0.318,-7.183 0.318,-7.183 ; -0.318,-7.183 -0.168,-7.332 ; -0.318,-5.318 0.318,-5.318 ; -0.318,-5.318 -0.168,-5.168 ; -0.318,-5.318 -0.318,-4.683 ; -0.318,-4.683 0.318,-4.683 ; -0.318,-4.683 -0.168,-4.832 ; -0.318,-2.818 0.318,-2.818 ; -0.318,-2.818 -0.168,-2.668 ; -0.318,-2.818 -0.318,-2.183 ; -0.318,-2.183 -0.168,-2.332 ; -0.318,-2.183 0.318,-2.183 ; -0.318,-0.318 0.318,-0.318 ; -0.318,-0.318 -0.168,-0.168 ; -0.318,-0.318 -0.318,0.318 ; -0.318,0.318 -0.168,0.168 ; -0.318,0.318 0.318,0.318 ; -0.318,2.183 0.318,2.183 ; -0.318,2.183 -0.168,2.332 ; -0.318,2.183 -0.318,2.818 ; -0.318,2.818 -0.168,2.668 ; -0.318,2.818 0.318,2.818 ; -0.318,4.683 0.318,4.683 ; -0.318,4.683 -0.168,4.832 ; -0.318,4.683 -0.318,5.318 ; -0.318,5.318 0.318,5.318 ; -0.318,5.318 -0.168,5.168 ; -0.318,7.183 0.318,7.183 ; -0.318,7.183 -0.168,7.332 ; -0.318,7.183 -0.318,7.818 ; -0.318,7.818 0.318,7.818 ; -0.318,7.818 -0.168,7.668 ; -0.168,-7.668 0.168,-7.668 ; -0.168,-7.668 -0.168,-7.332 ; -0.168,-7.332 0.168,-7.332 ; -0.168,-5.168 0.168,-5.168 ; -0.168,-5.168 -0.168,-4.832 ; -0.168,-4.832 0.168,-4.832 ; -0.168,-2.668 0.168,-2.668 ; -0.168,-2.668 -0.168,-2.332 ; -0.168,-2.332 0.168,-2.332 ; -0.168,-0.168 0.168,-0.168 ; -0.168,-0.168 -0.168,0.168 ; -0.168,0.168 0.168,0.168 ; -0.168,2.332 0.168,2.332 ; -0.168,2.332 -0.168,2.668 ; -0.168,2.668 0.168,2.668 ; -0.168,4.832 0.168,4.832 ; -0.168,4.832 -0.168,5.168 ; -0.168,5.168 0.168,5.168 ; -0.168,7.332 0.168,7.332 ; -0.168,7.332 -0.168,7.668 ; -0.168,7.668 0.168,7.668 ; 0.168,-7.668 0.318,-7.818 ; 0.168,-7.668 0.168,-7.332 ; 0.168,-7.332 0.318,-7.183 ; 0.168,-5.168 0.168,-4.832 ; 0.168,-5.168 0.318,-5.318 ; 0.168,-4.832 0.318,-4.683 ; 0.168,-2.668 0.318,-2.818 ; 0.168,-2.668 0.168,-2.332 ; 0.168,-2.332 0.318,-2.183 ; 0.168,-0.168 0.318,-0.318 ; 0.168,-0.168 0.168,0.168 ; 0.168,0.168 0.318,0.318 ; 0.168,2.332 0.318,2.183 ; 0.168,2.332 0.168,2.668 ; 0.168,2.668 0.318,2.818 ; 0.168,4.832 0.318,4.683 ; 0.168,4.832 0.168,5.168 ; 0.168,5.168 0.318,5.318 ; 0.168,7.332 0.318,7.183 ; 0.168,7.332 0.168,7.668 ; 0.168,7.668 0.318,7.818 ; 0.318,-7.818 0.318,-7.183 ; 0.318,-5.318 0.318,-4.683 ; 0.318,-2.818 0.318,-2.183 ; 0.318,-0.318 0.318,0.318 ; 0.318,2.183 0.318,2.818 ; 0.318,4.683 0.318,5.318 ; 0.318,7.183 0.318,7.818 ; -4.6,-2.35 ccw(c-4.35,-2.35) -4.35,-2.6 -1.74,-2.6 -1.74,-9.22 1.74,-9.22 1.74,9.22 -1.74,9.22 -1.74,2.6 -4.35,2.6 ccw(c-4.35,2.35) -4.6,2.35 -4.6,-2.35 ; -1.095,-1.11 -1.095,1.11 1.095,1.11 1.095,-1.11 -1.095,-1.11 ; -1.095,3.89 1.095,3.89 1.095,6.11 -1.095,6.11 -1.095,3.89 ; -1.095,6.39 1.095,6.39 1.095,8.61 -1.095,8.61 -1.095,6.39
Mechanical 15:
  lines w0.05: -4.75,-9.75 2.25,-9.75 2.25,9.75 -4.75,9.75 -4.75,-9.75
  lines w0.1: -0.5,0 0.5,0 ; 0,-0.5 0,0.5
3D body "Nano-Fit 105309-2107.stp": height 10.51, standoff -3.2, extent -4.6,-9.22 1.74,9.22

## Nano-Fit 105309-2108 [mm] "Molex Nano-Fit Header, 8-Pin, 2.5mm Pitch"
height 10.51
pads (9):
  round 1.7 hole 1.2: 1(0,8.75) 2(0,6.25) 3(0,3.75) 4(0,1.25) 5(0,-1.25) 6(0,-3.75) 7(0,-6.25) 8(0,-8.75)
  round 1.3 hole 1.3 unplated: MH(-1.34,0)
Top Overlay:
  lines w0.2: -2,-0.75 -2,-10.75 2,-10.75 2,10.75 -2,10.75 -2,0.75
Bottom Overlay:
  region: 0,9.884 -0.5,10.75 0.5,10.75
Mechanical 1:
  lines w0.05: -4.02,-2.6 -4.02,2.6 ; -2.56,-2.6 -2.56,-2.2 ; -2.56,2.2 -2.56,2.6 ; -1.095,-2.2 -3.75,-2.2 -3.75,2.2 -1.095,2.2 ; -1.095,-1.33 -1.37,-1.33 -1.37,1.33 -1.095,1.33 ; -0.215,-7.64 -0.215,-7.36 ; 0.385,-7.64 0.385,-7.36 ; 1.095,-7.64 -1.095,-7.64 -1.095,-9.86 1.095,-9.86 1.095,-5.14 -1.095,-5.14 -1.095,-7.36 1.095,-7.36 ; -0.318,-9.068 -0.318,-8.433 ; -0.318,-9.068 0.318,-9.068 ; -0.318,-9.068 -0.168,-8.918 ; -0.318,-8.433 -0.168,-8.582 ; -0.318,-8.433 0.318,-8.433 ; -0.318,-6.568 -0.318,-5.933 ; -0.318,-6.568 0.318,-6.568 ; -0.318,-6.568 -0.168,-6.418 ; -0.318,-5.933 -0.168,-6.082 ; -0.318,-5.933 0.318,-5.933 ; -0.318,-4.068 0.318,-4.068 ; -0.318,-4.068 -0.168,-3.918 ; -0.318,-4.068 -0.318,-3.433 ; -0.318,-3.433 0.318,-3.433 ; -0.318,-3.433 -0.168,-3.582 ; -0.318,-1.568 -0.318,-0.933 ; -0.318,-1.568 0.318,-1.568 ; -0.318,-1.568 -0.168,-1.418 ; -0.318,-0.933 -0.168,-1.082 ; -0.318,-0.933 0.318,-0.933 ; -0.318,0.933 -0.318,1.568 ; -0.318,0.933 0.318,0.933 ; -0.318,0.933 -0.168,1.082 ; -0.318,1.568 -0.168,1.418 ; -0.318,1.568 0.318,1.568 ; -0.318,3.433 0.318,3.433 ; -0.318,3.433 -0.168,3.582 ; -0.318,3.433 -0.318,4.068 ; -0.318,4.068 0.318,4.068 ; -0.318,4.068 -0.168,3.918 ; -0.318,5.933 -0.318,6.568 ; -0.318,5.933 -0.168,6.082 ; -0.318,5.933 0.318,5.933 ; -0.318,6.568 0.318,6.568 ; -0.318,6.568 -0.168,6.418 ; -0.318,8.433 -0.318,9.068 ; -0.318,8.433 -0.168,8.582 ; -0.318,8.433 0.318,8.433 ; -0.318,9.068 0.318,9.068 ; -0.318,9.068 -0.168,8.918 ; -0.168,-8.918 -0.168,-8.582 ; -0.168,-8.918 0.168,-8.918 ; -0.168,-8.582 0.168,-8.582 ; -0.168,-6.418 -0.168,-6.082 ; -0.168,-6.418 0.168,-6.418 ; -0.168,-6.082 0.168,-6.082 ; -0.168,-3.918 0.168,-3.918 ; -0.168,-3.918 -0.168,-3.582 ; -0.168,-3.582 0.168,-3.582 ; -0.168,-1.418 0.168,-1.418 ; -0.168,-1.418 -0.168,-1.082 ; -0.168,-1.082 0.168,-1.082 ; -0.168,1.082 -0.168,1.418 ; -0.168,1.082 0.168,1.082 ; -0.168,1.418 0.168,1.418 ; -0.168,3.582 0.168,3.582 ; -0.168,3.582 -0.168,3.918 ; -0.168,3.918 0.168,3.918 ; -0.168,6.082 -0.168,6.418 ; -0.168,6.082 0.168,6.082 ; -0.168,6.418 0.168,6.418 ; -0.168,8.582 -0.168,8.918 ; -0.168,8.582 0.168,8.582 ; -0.168,8.918 0.168,8.918 ; 0.168,-8.918 0.168,-8.582 ; 0.168,-8.918 0.318,-9.068 ; 0.168,-8.582 0.318,-8.433 ; 0.168,-6.418 0.168,-6.082 ; 0.168,-6.418 0.318,-6.568 ; 0.168,-6.082 0.318,-5.933 ; 0.168,-3.918 0.168,-3.582 ; 0.168,-3.918 0.318,-4.068 ; 0.168,-3.582 0.318,-3.433 ; 0.168,-1.418 0.318,-1.568 ; 0.168,-1.418 0.168,-1.082 ; 0.168,-1.082 0.318,-0.933 ; 0.168,1.082 0.168,1.418 ; 0.168,1.082 0.318,0.933 ; 0.168,1.418 0.318,1.568 ; 0.168,3.582 0.168,3.918 ; 0.168,3.582 0.318,3.433 ; 0.168,3.918 0.318,4.068 ; 0.168,6.082 0.168,6.418 ; 0.168,6.082 0.318,5.933 ; 0.168,6.418 0.318,6.568 ; 0.168,8.582 0.168,8.918 ; 0.168,8.582 0.318,8.433 ; 0.168,8.918 0.318,9.068 ; 0.318,-9.068 0.318,-8.433 ; 0.318,-6.568 0.318,-5.933 ; 0.318,-4.068 0.318,-3.433 ; 0.318,-1.568 0.318,-0.933 ; 0.318,0.933 0.318,1.568 ; 0.318,3.433 0.318,4.068 ; 0.318,5.933 0.318,6.568 ; 0.318,8.433 0.318,9.068 ; -4.6,-2.35 ccw(c-4.35,-2.35) -4.35,-2.6 -1.74,-2.6 -1.74,-10.47 1.74,-10.47 1.74,10.47 -1.74,10.47 -1.74,2.6 -4.35,2.6 ccw(c-4.35,2.35) -4.6,2.35 -4.6,-2.35 ; -1.095,-4.86 -1.095,-2.64 1.095,-2.64 1.095,-4.86 -1.095,-4.86 ; -1.095,-2.36 -1.095,-0.14 1.095,-0.14 1.095,-2.36 -1.095,-2.36 ; -1.095,0.14 -1.095,2.36 1.095,2.36 1.095,0.14 -1.095,0.14 ; -1.095,2.64 -1.095,4.86 1.095,4.86 1.095,2.64 -1.095,2.64 ; -1.095,5.14 1.095,5.14 1.095,7.36 -1.095,7.36 -1.095,5.14 ; -1.095,7.64 1.095,7.64 1.095,9.86 -1.095,9.86 -1.095,7.64
Mechanical 15:
  lines w0.05: -4.75,-11 2.25,-11 2.25,11 -4.75,11 -4.75,-11
  lines w0.1: -0.5,0 0.5,0 ; 0,-0.5 0,0.5
3D body "Nano-Fit 105309-2108.stp": height 10.51, standoff -3.2, extent -4.6,-10.47 1.74,10.47

## Nano-Fit 105310-1104 [mm] "Molex Nano-Fit Header, 4-Pin, 2.5mm Pitch"
height 10.51
pads (5):
  round 1.7 hole 1.2: 1(-1.25,1.25) 2(-1.25,-1.25) 3(1.25,1.25) 4(1.25,-1.25)
  round 1.3 hole 1.3 unplated: MH(-2.59,0)
Top Overlay:
  lines w0.2: -3.25,-0.75 -3.25,-3.25 3.25,-3.25 3.25,3.25 -3.25,3.25 -3.25,0.75
Bottom Overlay:
  region: -1.25,2.384 -1.75,3.25 -0.75,3.25
Mechanical 1:
  lines w0.05: -5.28,-2.6 -5.28,2.6 ; -3.82,-2.6 -3.82,-2.2 ; -3.82,2.2 -3.82,2.6 ; -2.345,-2.2 -5,-2.2 -5,2.2 -2.345,2.2 ; -2.345,-1.33 -2.62,-1.33 -2.62,1.33 -2.345,1.33 ; -0.155,1.05 0.155,1.05 ; -0.155,1.65 0.155,1.65 ; -0.155,2.36 -0.155,0.14 -2.345,0.14 -2.345,2.36 2.345,2.36 2.345,0.14 0.155,0.14 0.155,2.36 ; -1.568,-1.568 -1.568,-0.933 ; -1.568,-1.568 -1.418,-1.418 ; -1.568,-1.568 -0.933,-1.568 ; -1.568,-0.933 -0.933,-0.933 ; -1.568,-0.933 -1.418,-1.082 ; -1.568,0.933 -1.568,1.568 ; -1.568,0.933 -1.418,1.082 ; -1.568,0.933 -0.933,0.933 ; -1.568,1.568 -0.933,1.568 ; -1.568,1.568 -1.418,1.418 ; -1.418,-1.418 -1.418,-1.082 ; -1.418,-1.418 -1.082,-1.418 ; -1.418,-1.082 -1.082,-1.082 ; -1.418,1.082 -1.418,1.418 ; -1.418,1.082 -1.082,1.082 ; -1.418,1.418 -1.082,1.418 ; -1.082,-1.418 -1.082,-1.082 ; -1.082,-1.418 -0.933,-1.568 ; -1.082,-1.082 -0.933,-0.933 ; -1.082,1.082 -1.082,1.418 ; -1.082,1.082 -0.933,0.933 ; -1.082,1.418 -0.933,1.568 ; -0.933,-1.568 -0.933,-0.933 ; -0.933,0.933 -0.933,1.568 ; 0.933,-1.568 0.933,-0.933 ; 0.933,-1.568 1.082,-1.418 ; 0.933,-1.568 1.568,-1.568 ; 0.933,-0.933 1.568,-0.933 ; 0.933,-0.933 1.082,-1.082 ; 0.933,0.933 1.568,0.933 ; 0.933,0.933 1.082,1.082 ; 0.933,0.933 0.933,1.568 ; 0.933,1.568 1.568,1.568 ; 0.933,1.568 1.082,1.418 ; 1.082,-1.418 1.082,-1.082 ; 1.082,-1.418 1.418,-1.418 ; 1.082,-1.082 1.418,-1.082 ; 1.082,1.082 1.418,1.082 ; 1.082,1.082 1.082,1.418 ; 1.082,1.418 1.418,1.418 ; 1.418,-1.418 1.568,-1.568 ; 1.418,-1.418 1.418,-1.082 ; 1.418,-1.082 1.568,-0.933 ; 1.418,1.082 1.418,1.418 ; 1.418,1.082 1.568,0.933 ; 1.418,1.418 1.568,1.568 ; 1.568,-1.568 1.568,-0.933 ; 1.568,0.933 1.568,1.568 ; -5.85,-2.4 ccw(c-5.65,-2.4) -5.65,-2.6 -2.99,-2.6 -2.99,-2.97 2.99,-2.97 2.99,2.97 -2.99,2.97 -2.99,2.6 -5.65,2.6 ccw(c-5.65,2.4) -5.85,2.4 -5.85,-2.4 ; -2.345,-2.36 -2.345,-0.14 -0.155,-0.14 -0.155,-2.36 -2.345,-2.36 ; 0.155,-2.36 2.345,-2.36 2.345,-0.14 0.155,-0.14 0.155,-2.36
Mechanical 15:
  lines w0.05: -6,-3.5 3.5,-3.5 3.5,3.5 -6,3.5 -6,-3.5
  lines w0.1: -0.5,0 0.5,0 ; 0,-0.5 0,0.5
3D body "Nano-Fit 105310-1104.stp": height 10.51, standoff -3.2, extent -5.85,-2.97 2.99,2.97

## Nano-Fit 105310-1106 [mm] "Molex Nano-Fit Header, 6-Pin, 2.5mm Pitch"
height 10.51
pads (7):
  round 1.7 hole 1.2: 1(-1.25,2.5) 2(-1.25,0) 3(-1.25,-2.5) 4(1.25,2.5) 5(1.25,0) 6(1.25,-2.5)
  round 1.3 hole 1.3 unplated: MH(-2.59,1.25)
Top Overlay:
  lines w0.2: -3.25,0.5 -3.25,-4.5 3.25,-4.5 3.25,4.5 -3.25,4.5 -3.25,2
Bottom Overlay:
  region: -1.25,3.634 -1.75,4.5 -0.75,4.5
Mechanical 1:
  lines w0.05: -5.28,-2.6 -5.28,2.6 ; -3.82,-2.6 -3.82,-2.2 ; -3.82,2.2 -3.82,2.6 ; -2.345,-2.2 -5,-2.2 -5,2.2 -2.345,2.2 ; -2.345,-1.39 -2.345,-3.61 -0.155,-3.61 -0.155,-1.39 -2.62,-1.39 -2.62,1.39 -0.155,1.39 -0.155,3.61 ; -2.345,1.39 -2.345,3.61 2.345,3.61 2.345,1.39 0.155,1.39 0.155,3.61 ; -0.155,2.3 0.155,2.3 ; -0.155,2.9 0.155,2.9 ; -1.568,-2.818 -0.933,-2.818 ; -1.568,-2.818 -1.568,-2.183 ; -1.568,-2.818 -1.418,-2.668 ; -1.568,-2.183 -0.933,-2.183 ; -1.568,-2.183 -1.418,-2.332 ; -1.568,-0.318 -1.568,0.318 ; -1.568,-0.318 -1.418,-0.168 ; -1.568,-0.318 -0.933,-0.318 ; -1.568,0.318 -0.933,0.318 ; -1.568,0.318 -1.418,0.168 ; -1.568,2.183 -0.933,2.183 ; -1.568,2.183 -1.568,2.818 ; -1.568,2.183 -1.418,2.332 ; -1.568,2.818 -0.933,2.818 ; -1.568,2.818 -1.418,2.668 ; -1.418,-2.668 -1.082,-2.668 ; -1.418,-2.668 -1.418,-2.332 ; -1.418,-2.332 -1.082,-2.332 ; -1.418,-0.168 -1.418,0.168 ; -1.418,-0.168 -1.082,-0.168 ; -1.418,0.168 -1.082,0.168 ; -1.418,2.332 -1.082,2.332 ; -1.418,2.332 -1.418,2.668 ; -1.418,2.668 -1.082,2.668 ; -1.082,-2.668 -0.933,-2.818 ; -1.082,-2.668 -1.082,-2.332 ; -1.082,-2.332 -0.933,-2.183 ; -1.082,-0.168 -1.082,0.168 ; -1.082,-0.168 -0.933,-0.318 ; -1.082,0.168 -0.933,0.318 ; -1.082,2.332 -1.082,2.668 ; -1.082,2.332 -0.933,2.183 ; -1.082,2.668 -0.933,2.818 ; -0.933,-2.818 -0.933,-2.183 ; -0.933,-0.318 -0.933,0.318 ; -0.933,2.183 -0.933,2.818 ; 0.933,-2.818 0.933,-2.183 ; 0.933,-2.818 1.082,-2.668 ; 0.933,-2.818 1.568,-2.818 ; 0.933,-2.183 1.568,-2.183 ; 0.933,-2.183 1.082,-2.332 ; 0.933,-0.318 1.568,-0.318 ; 0.933,-0.318 1.082,-0.168 ; 0.933,-0.318 0.933,0.318 ; 0.933,0.318 1.568,0.318 ; 0.933,0.318 1.082,0.168 ; 0.933,2.183 0.933,2.818 ; 0.933,2.183 1.082,2.332 ; 0.933,2.183 1.568,2.183 ; 0.933,2.818 1.568,2.818 ; 0.933,2.818 1.082,2.668 ; 1.082,-2.668 1.082,-2.332 ; 1.082,-2.668 1.418,-2.668 ; 1.082,-2.332 1.418,-2.332 ; 1.082,-0.168 1.418,-0.168 ; 1.082,-0.168 1.082,0.168 ; 1.082,0.168 1.418,0.168 ; 1.082,2.332 1.082,2.668 ; 1.082,2.332 1.418,2.332 ; 1.082,2.668 1.418,2.668 ; 1.418,-2.668 1.418,-2.332 ; 1.418,-2.668 1.568,-2.818 ; 1.418,-2.332 1.568,-2.183 ; 1.418,-0.168 1.418,0.168 ; 1.418,-0.168 1.568,-0.318 ; 1.418,0.168 1.568,0.318 ; 1.418,2.332 1.568,2.183 ; 1.418,2.332 1.418,2.668 ; 1.418,2.668 1.568,2.818 ; 1.568,-2.818 1.568,-2.183 ; 1.568,-0.318 1.568,0.318 ; 1.568,2.183 1.568,2.818 ; -5.85,-2.4 ccw(c-5.65,-2.4) -5.65,-2.6 -2.99,-2.6 -2.99,-4.22 2.99,-4.22 2.99,4.22 -2.99,4.22 -2.99,2.6 -5.65,2.6 ccw(c-5.65,2.4) -5.85,2.4 -5.85,-2.4 ; -2.345,-1.11 -2.345,1.11 -0.155,1.11 -0.155,-1.11 -2.345,-1.11 ; 0.155,-3.61 0.155,-1.39 2.345,-1.39 2.345,-3.61 0.155,-3.61 ; 0.155,-1.11 2.345,-1.11 2.345,1.11 0.155,1.11 0.155,-1.11
Mechanical 15:
  lines w0.05: -6,-4.75 -6,4.75 3.5,4.75 3.5,-4.75 -6,-4.75
  lines w0.1: -0.5,0 0.5,0 ; 0,-0.5 0,0.5
3D body "Nano-Fit 105310-1106.stp": height 10.51, standoff -3.2, extent -5.85,-4.22 2.99,4.22

## Nano-Fit 105310-1108 [mm] "Molex Nano-Fit Header, 8-Pin, 2.5mm Pitch"
height 10.51
pads (9):
  round 1.7 hole 1.2: 1(-1.25,3.75) 2(-1.25,1.25) 3(-1.25,-1.25) 4(-1.25,-3.75) 5(1.25,3.75) 6(1.25,1.25) 7(1.25,-1.25) 8(1.25,-3.75)
  round 1.3 hole 1.3 unplated: MH(-2.59,0)
Top Overlay:
  lines w0.2: -3.25,-0.75 -3.25,-5.75 3.25,-5.75 3.25,5.75 -3.25,5.75 -3.25,0.75
Bottom Overlay:
  region: -1.25,4.884 -1.75,5.75 -0.75,5.75
Mechanical 1:
  lines w0.05: -5.28,-2.6 -5.28,2.6 ; -3.82,-2.6 -3.82,-2.2 ; -3.82,2.2 -3.82,2.6 ; -2.345,-2.2 -5,-2.2 -5,2.2 -2.345,2.2 ; -2.345,-1.33 -2.62,-1.33 -2.62,1.33 -2.345,1.33 ; -0.155,3.55 0.155,3.55 ; -0.155,4.15 0.155,4.15 ; -0.155,4.86 -0.155,2.64 -2.345,2.64 -2.345,4.86 2.345,4.86 2.345,2.64 0.155,2.64 0.155,4.86 ; -1.568,-4.068 -1.568,-3.433 ; -1.568,-4.068 -1.418,-3.918 ; -1.568,-4.068 -0.933,-4.068 ; -1.568,-3.433 -0.933,-3.433 ; -1.568,-3.433 -1.418,-3.582 ; -1.568,-1.568 -0.933,-1.568 ; -1.568,-1.568 -1.568,-0.933 ; -1.568,-1.568 -1.418,-1.418 ; -1.568,-0.933 -0.933,-0.933 ; -1.568,-0.933 -1.418,-1.082 ; -1.568,0.933 -0.933,0.933 ; -1.568,0.933 -1.568,1.568 ; -1.568,0.933 -1.418,1.082 ; -1.568,1.568 -0.933,1.568 ; -1.568,1.568 -1.418,1.418 ; -1.568,3.433 -1.568,4.068 ; -1.568,3.433 -1.418,3.582 ; -1.568,3.433 -0.933,3.433 ; -1.568,4.068 -0.933,4.068 ; -1.568,4.068 -1.418,3.918 ; -1.418,-3.918 -1.418,-3.582 ; -1.418,-3.918 -1.082,-3.918 ; -1.418,-3.582 -1.082,-3.582 ; -1.418,-1.418 -1.082,-1.418 ; -1.418,-1.418 -1.418,-1.082 ; -1.418,-1.082 -1.082,-1.082 ; -1.418,1.082 -1.082,1.082 ; -1.418,1.082 -1.418,1.418 ; -1.418,1.418 -1.082,1.418 ; -1.418,3.582 -1.418,3.918 ; -1.418,3.582 -1.082,3.582 ; -1.418,3.918 -1.082,3.918 ; -1.082,-3.918 -1.082,-3.582 ; -1.082,-3.918 -0.933,-4.068 ; -1.082,-3.582 -0.933,-3.433 ; -1.082,-1.418 -0.933,-1.568 ; -1.082,-1.418 -1.082,-1.082 ; -1.082,-1.082 -0.933,-0.933 ; -1.082,1.082 -0.933,0.933 ; -1.082,1.082 -1.082,1.418 ; -1.082,1.418 -0.933,1.568 ; -1.082,3.582 -1.082,3.918 ; -1.082,3.582 -0.933,3.433 ; -1.082,3.918 -0.933,4.068 ; -0.933,-4.068 -0.933,-3.433 ; -0.933,-1.568 -0.933,-0.933 ; -0.933,0.933 -0.933,1.568 ; -0.933,3.433 -0.933,4.068 ; 0.933,-4.068 0.933,-3.433 ; 0.933,-4.068 1.082,-3.918 ; 0.933,-4.068 1.568,-4.068 ; 0.933,-3.433 1.568,-3.433 ; 0.933,-3.433 1.082,-3.582 ; 0.933,-1.568 1.568,-1.568 ; 0.933,-1.568 1.082,-1.418 ; 0.933,-1.568 0.933,-0.933 ; 0.933,-0.933 1.568,-0.933 ; 0.933,-0.933 1.082,-1.082 ; 0.933,0.933 0.933,1.568 ; 0.933,0.933 1.082,1.082 ; 0.933,0.933 1.568,0.933 ; 0.933,1.568 1.568,1.568 ; 0.933,1.568 1.082,1.418 ; 0.933,3.433 1.568,3.433 ; 0.933,3.433 1.082,3.582 ; 0.933,3.433 0.933,4.068 ; 0.933,4.068 1.568,4.068 ; 0.933,4.068 1.082,3.918 ; 1.082,-3.918 1.082,-3.582 ; 1.082,-3.918 1.418,-3.918 ; 1.082,-3.582 1.418,-3.582 ; 1.082,-1.418 1.082,-1.082 ; 1.082,-1.418 1.418,-1.418 ; 1.082,-1.082 1.418,-1.082 ; 1.082,1.082 1.082,1.418 ; 1.082,1.082 1.418,1.082 ; 1.082,1.418 1.418,1.418 ; 1.082,3.582 1.418,3.582 ; 1.082,3.582 1.082,3.918 ; 1.082,3.918 1.418,3.918 ; 1.418,-3.918 1.568,-4.068 ; 1.418,-3.918 1.418,-3.582 ; 1.418,-3.582 1.568,-3.433 ; 1.418,-1.418 1.568,-1.568 ; 1.418,-1.418 1.418,-1.082 ; 1.418,-1.082 1.568,-0.933 ; 1.418,1.082 1.418,1.418 ; 1.418,1.082 1.568,0.933 ; 1.418,1.418 1.568,1.568 ; 1.418,3.582 1.418,3.918 ; 1.418,3.582 1.568,3.433 ; 1.418,3.918 1.568,4.068 ; 1.568,-4.068 1.568,-3.433 ; 1.568,-1.568 1.568,-0.933 ; 1.568,0.933 1.568,1.568 ; 1.568,3.433 1.568,4.068 ; -5.85,-2.4 ccw(c-5.65,-2.4) -5.65,-2.6 -2.99,-2.6 -2.99,-5.47 2.99,-5.47 2.99,5.47 -2.99,5.47 -2.99,2.6 -5.65,2.6 ccw(c-5.65,2.4) -5.85,2.4 -5.85,-2.4 ; -2.345,-4.86 -2.345,-2.64 -0.155,-2.64 -0.155,-4.86 -2.345,-4.86 ; -2.345,-2.36 -2.345,-0.14 -0.155,-0.14 -0.155,-2.36 -2.345,-2.36 ; -2.345,0.14 -2.345,2.36 -0.155,2.36 -0.155,0.14 -2.345,0.14 ; 0.155,-4.86 2.345,-4.86 2.345,-2.64 0.155,-2.64 0.155,-4.86 ; 0.155,-2.36 0.155,-0.14 2.345,-0.14 2.345,-2.36 0.155,-2.36 ; 0.155,0.14 0.155,2.36 2.345,2.36 2.345,0.14 0.155,0.14
Mechanical 15:
  lines w0.05: -6,-6 -6,6 3.5,6 3.5,-6 -6,-6
  lines w0.1: -0.5,0 0.5,0 ; 0,-0.5 0,0.5
3D body "Nano-Fit 105310-1108.stp": height 10.51, standoff -3.2, extent -5.85,-5.47 2.99,5.47

## Nano-Fit 105310-1110 [mm] "Molex Nano-Fit Header, 10-Pin, 2.5mm Pitch"
height 10.51
pads (11):
  round 1.7 hole 1.2: 1(-1.25,5) 2(-1.25,2.5) 3(-1.25,0) 4(-1.25,-2.5) 5(-1.25,-5) 6(1.25,5) 7(1.25,2.5) 8(1.25,0) 9(1.25,-2.5) 10(1.25,-5)
  round 1.3 hole 1.3 unplated: MH(-2.59,1.25)
Top Overlay:
  lines w0.2: -3.25,0.5 -3.25,-7 3.25,-7 3.25,7 -3.25,7 -3.25,2
Bottom Overlay:
  region: -1.25,6.134 -1.75,7 -0.75,7
Mechanical 1:
  drawing of 178 lines, arcs and shapes, not listed
Mechanical 15:
  lines w0.05: -6,-7.25 -6,7.25 3.5,7.25 3.5,-7.25 -6,-7.25
  lines w0.1: -0.5,0 0.5,0 ; 0,-0.5 0,0.5
3D body "Nano-Fit 105310-1110.stp": height 10.51, standoff -3.2, extent -5.85,-6.72 2.99,6.72